# Altium footprint library DIODE_TH_1.PcbLib: 1 footprints
Each footprint in its own frame and in the unit in brackets; x right, y up, seen from the top. Pads: shape width x height; smd on the part's side, far side on the other; paste and mask are expansions set on the pad; w line width, h text height; cw(c..) or ccw(c..) is an arc to the next point about the centre after c.
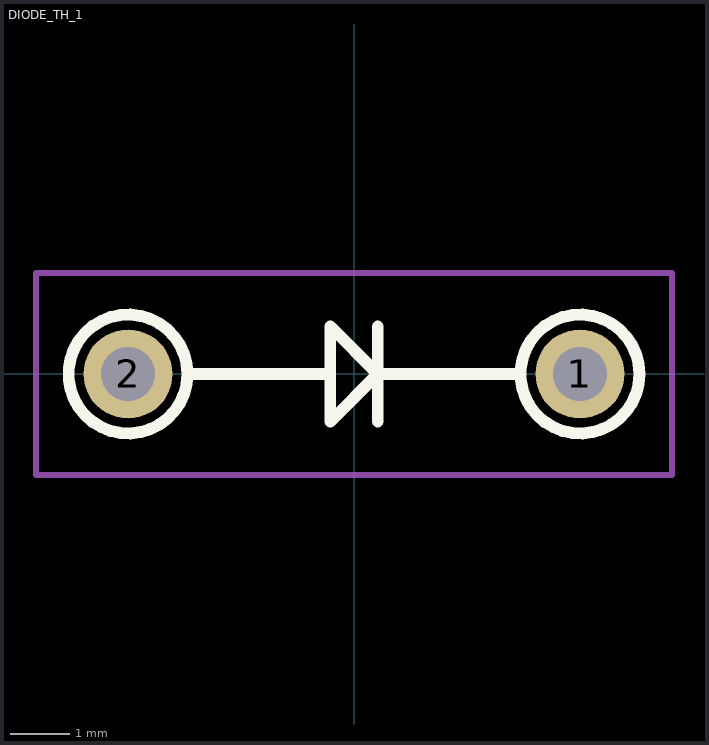
[diagram p0: the footprint, top view; thin cyan lines are the x and y axes]

## DIODE_TH_1 [mm]
pads (2):
  round 1.5 hole 0.9: 1(3.8,0) 2(-3.8,0)
Top Overlay:
  circle w0.2: c3.8,0 r1
  circle w0.2: c-3.8,0 r1
  lines w0.2: -2.8,0 -0.4,0 ; 0.4,-0.8 0.4,0.8 ; 2.8,0 0.4,0 ; -0.4,0.8 0.4,0 ; -0.4,0.8 -0.4,-0.8 0.4,0 ; -0.4,0.8 -0.4,0.8 ; 0.4,0 0.4,0
Top Courtyard:
  lines w0.1: -5.35,-1.7 -5.35,1.7 5.35,1.7 5.35,-1.7 -2.625,-1.7 -5.35,-1.7
3D body "User Library-DO-35G-30.step": height 1.82, standoff -2, extent -4.085,-0.901 4.085,0.901